# EAGLE library part AD8307 (library kamiki)
Logarithmic Amplifier Low Cost DC-500MHz, 92dB.
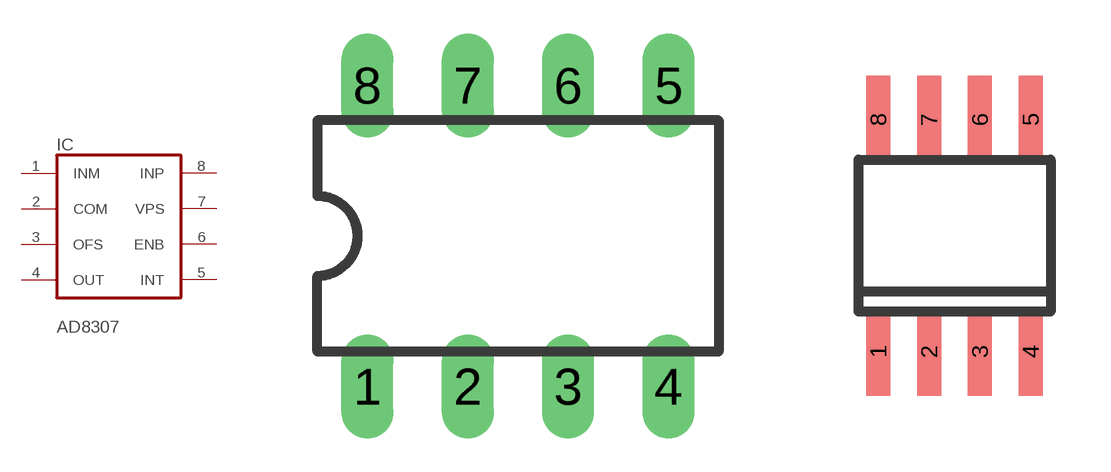
[diagram p2: symbol with the pads of DIL-08; footprints DIL-08, SO08]

Designator prefix IC

## AD8307AN  [DIL-08]
1  INM  in
2  COM  pas
3  OFS  pas
4  OUT  out
5  INT  pas
6  ENB  in
7  VPS  pwr
8  INP  in

## AD8307AR  [SO08]
Pads as for DIL-08

## Footprint DIL-08 (pad centres in mm)
Dual In Line Package
drill 0.813 long: 1 -3.81,-3.81; 2 -1.27,-3.81; 3 1.27,-3.81; 4 3.81,-3.81; 5 3.81,3.81; 6 1.27,3.81; 7 -1.27,3.81; 8 -3.81,3.81

## Footprint SO08 (pad centres in mm)
Small Outline Package 8
smd 0.6 x 2.2: 1 -1.905,-2.9; 2 -0.635,-2.9; 3 0.635,-2.9; 4 1.905,-2.9; 5 1.905,2.9; 6 0.635,2.9; 7 -0.635,2.9; 8 -1.905,2.9